# EAGLE library part CC3000 (library 24x16_RGB_ATXMega_Wifi_BBuck)
TI SimpleLink CC3000 Module - WiFi 802.11b/g Network Processor
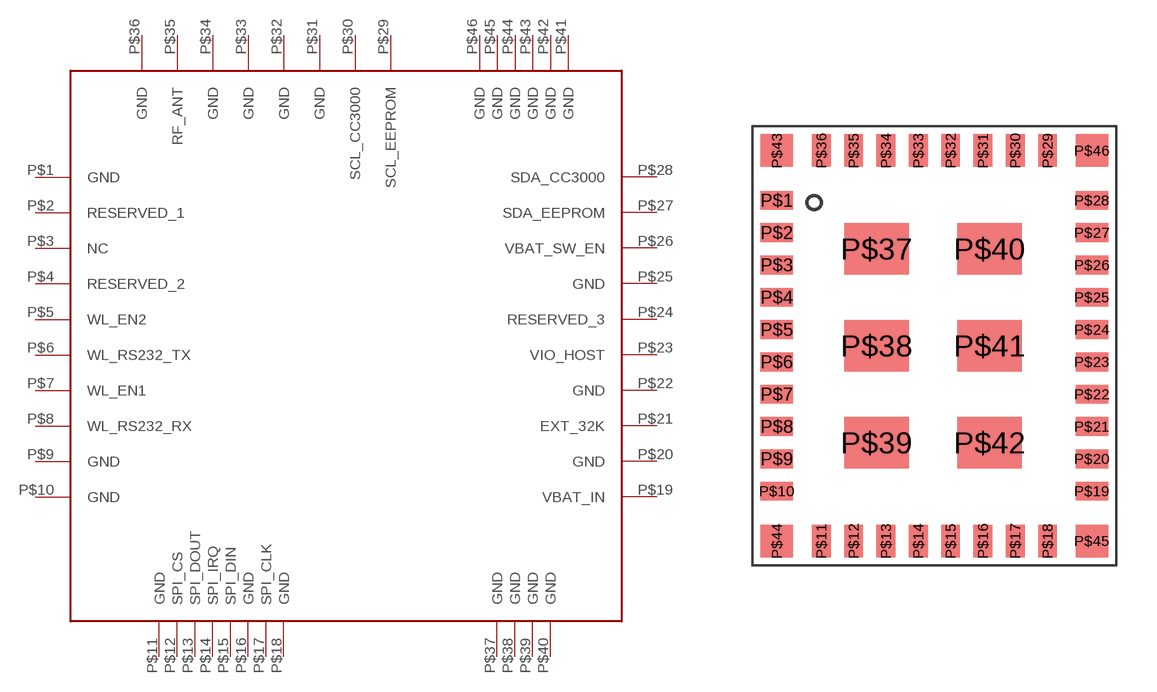
[diagram p4: symbol with the pads of CC3000; footprint CC3000]

Designator prefix -

## CC3000 (AUTHOR: Matt Bigarani; DATASHEET: http://www.ti.com/lit/ds/symlink/cc3000.pdf; DATE: 2/8/2013)  [CC3000]
P$1  GND  pwr
P$2  RESERVED_1
P$3  NC  nc
P$4  RESERVED_2
P$5  WL_EN2
P$6  WL_RS232_TX
P$7  WL_EN1
P$8  WL_RS232_RX
P$9  GND
P$10  GND  pwr
P$11  GND  pwr
P$12  SPI_CS
P$13  SPI_DOUT
P$14  SPI_IRQ
P$15  SPI_DIN
P$16  GND  pwr
P$17  SPI_CLK
P$18  GND  pwr
P$19  VBAT_IN
P$20  GND
P$21  EXT_32K
P$22  GND
P$23  VIO_HOST
P$24  RESERVED_3
P$25  GND
P$26  VBAT_SW_EN
P$27  SDA_EEPROM
P$28  SDA_CC3000
P$29  SCL_EEPROM  pwr
P$30  SCL_CC3000  pwr
P$31  GND  pwr
P$32  GND  pwr
P$33  GND  pwr
P$34  GND  pwr
P$35  RF_ANT
P$36  GND  pas
P$37  GND  pwr
P$38  GND  pas
P$39  GND  pwr
P$40  GND  pwr
P$41  GND  pwr
P$42  GND  pwr
P$43  GND  pwr
P$44  GND  pwr
P$45  GND  pwr
P$46  GND  pwr

## Footprint CC3000 (pad centres in mm)
smd 1.2 x 0.7: P$1 0.9,13.55; P$2 0.9,12.35; P$3 0.9,11.15; P$4 0.9,9.95; P$5 0.9,8.75; P$6 0.9,7.55; P$7 0.9,6.35; P$8 0.9,5.15; P$9 0.9,3.95; P$10 0.9,2.75; P$19 12.6,2.75; P$20 12.6,3.95; P$21 12.6,5.15; P$22 12.6,6.35; P$23 12.6,7.55; P$24 12.6,8.75; P$25 12.6,9.95; P$26 12.6,11.15; P$27 12.6,12.35; P$28 12.6,13.55
smd 0.7 x 1.2: P$11 2.55,0.9; P$12 3.75,0.9; P$13 4.95,0.9; P$14 6.15,0.9; P$15 7.35,0.9; P$16 8.55,0.9; P$17 9.75,0.9; P$18 10.95,0.9; P$29 10.95,15.4; P$30 9.75,15.4; P$31 8.55,15.4; P$32 7.35,15.4; P$33 6.15,15.4; P$34 4.95,15.4; P$35 3.75,15.4; P$36 2.55,15.4
smd 2.4 x 1.9: P$37 4.6,11.75; P$38 4.6,8.15; P$39 4.6,4.55; P$40 8.8,11.75; P$41 8.8,8.15; P$42 8.8,4.55
smd 1.2 x 1.2: P$43 0.9,15.4; P$44 0.9,0.9; P$45 12.6,0.9; P$46 12.6,15.4